# EAGLE library part MEGA8L-DEV (library SAN-MEGA8L)
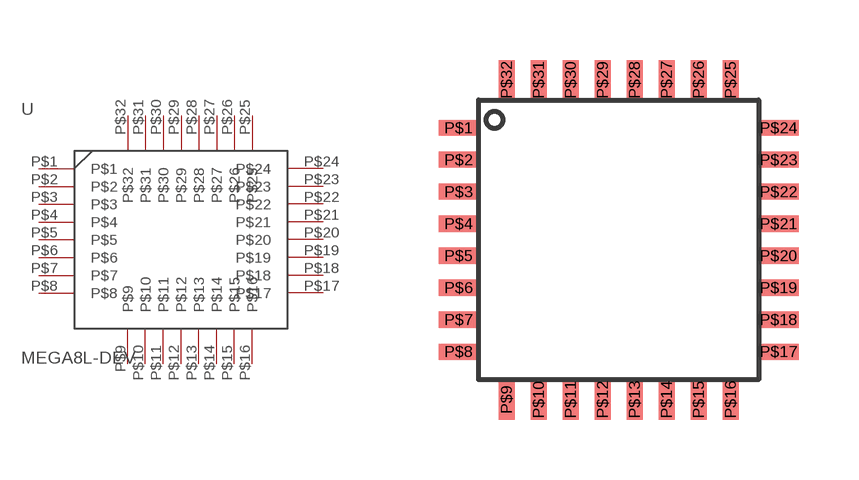
[diagram p0: symbol with the pads of TQFP-MEGA8L; footprint TQFP-MEGA8L]

Designator prefix -

## MEGA8L-DEV  [TQFP-MEGA8L]
P$1  P$1
P$2  P$2
P$3  P$3
P$4  P$4
P$5  P$5
P$6  P$6
P$7  P$7
P$8  P$8
P$9  P$9
P$10  P$10
P$11  P$11
P$12  P$12
P$13  P$13
P$14  P$14
P$15  P$15
P$16  P$16
P$17  P$17
P$18  P$18
P$19  P$19
P$20  P$20
P$21  P$21
P$22  P$22
P$23  P$23
P$24  P$24
P$25  P$25
P$26  P$26
P$27  P$27
P$28  P$28
P$29  P$29
P$30  P$30
P$31  P$31
P$32  P$32

## Footprint TQFP-MEGA8L (pad centres in mm)
smd 1 x 0.4: P$1 -6.3,8.5; P$2 -6.3,7.7; P$3 -6.3,6.9; P$4 -6.3,6.1; P$5 -6.3,5.3; P$6 -6.3,4.5; P$7 -6.3,3.7; P$8 -6.3,2.9; P$17 1.7,2.9; P$18 1.7,3.7; P$19 1.7,4.5; P$20 1.7,5.3; P$21 1.7,6.1; P$22 1.7,6.9; P$23 1.7,7.7; P$24 1.7,8.5
smd 0.4 x 1: P$9 -5.1,1.7; P$10 -4.3,1.7; P$11 -3.5,1.7; P$12 -2.7,1.7; P$13 -1.9,1.7; P$14 -1.1,1.7; P$15 -0.3,1.7; P$16 0.5,1.7; P$25 0.5,9.7; P$26 -0.3,9.7; P$27 -1.1,9.7; P$28 -1.9,9.7; P$29 -2.7,9.7; P$30 -3.5,9.7; P$31 -4.3,9.7; P$32 -5.1,9.7